# Altium footprint library SOIC127P540X175.PcbLib: 1 footprints
Each footprint in its own frame and in the unit in brackets; x right, y up, seen from the top. Pads: shape width x height; smd on the part's side, far side on the other; paste and mask are expansions set on the pad; w line width, h text height; cw(c..) or ccw(c..) is an arc to the next point about the centre after c.
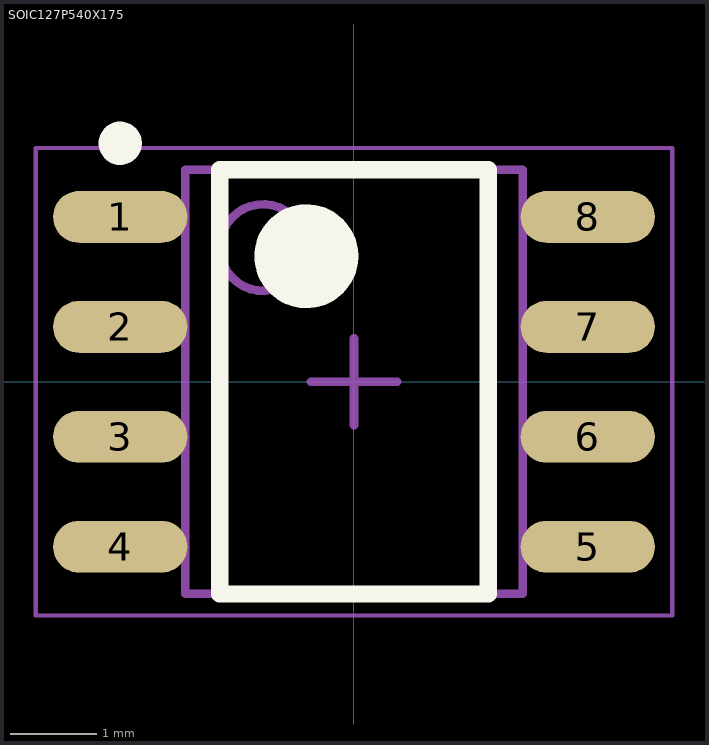
[diagram p0: the footprint, top view; thin cyan lines are the x and y axes]

## SOIC127P540X175 [mm] "SOIC, 8-Leads, Body 4.90x3.90mm, Pitch 1.27mm, IPC Medium Density"
height 1.75
pads (8):
  oval 1.55x0.6 smd: 1(-2.7,1.905) 2(-2.7,0.635) 3(-2.7,-0.635) 4(-2.7,-1.905) 5(2.7,-1.905) 6(2.7,-0.635) 7(2.7,0.635) 8(2.7,1.905)
Top Overlay:
  circle w0.6: c-0.55,1.45 r0.3
  circle w0.25: c-2.7,2.755 r0.125
  lines w0.2: -1.55,-2.45 1.55,-2.45 1.55,2.45 -1.55,2.45 -1.55,-2.45
Mechanical 13:
  circle w0.1: c-1.05,1.55 r0.5
  lines w0.1: -1.95,-2.45 1.95,-2.45 1.95,2.45 -1.95,2.45 -1.95,-2.45
Mechanical 15:
  lines w0.05: -3.675,-2.7 3.675,-2.7 3.675,2.7 -3.675,2.7 -3.675,-2.7
  lines w0.1: -0.5,0 0.5,0 ; 0,-0.5 0,0.5
3D body: height 1.75, standoff 0, extent -1.95,-2.45 1.95,2.45